# Altium footprint library QFP50P900X900X160-48N.PcbLib: 1 footprints
Each footprint in its own frame and in the unit in brackets; x right, y up, seen from the top. Pads: shape width x height; smd on the part's side, far side on the other; paste and mask are expansions set on the pad; w line width, h text height; cw(c..) or ccw(c..) is an arc to the next point about the centre after c.
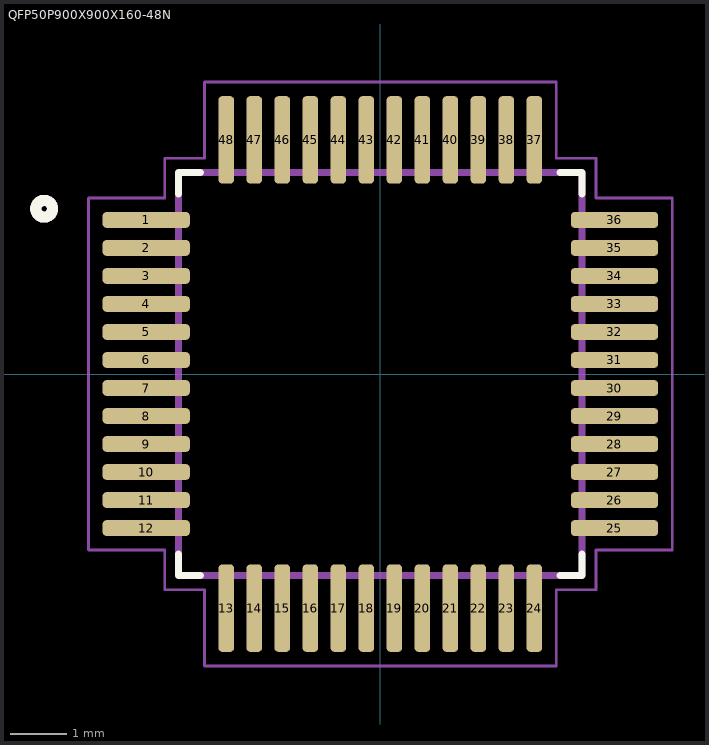
[diagram p0: the footprint, top view; thin cyan lines are the x and y axes]

## QFP50P900X900X160-48N [mm]
pads (48):
  rrect50% 1.56x0.28 smd: 1(-4.18,2.75) 2(-4.18,2.25) 3(-4.18,1.75) 4(-4.18,1.25) 5(-4.18,0.75) 6(-4.18,0.25) 7(-4.18,-0.25) 8(-4.18,-0.75) 9(-4.18,-1.25) 10(-4.18,-1.75) 11(-4.18,-2.25) 12(-4.18,-2.75) 25(4.18,-2.75) 26(4.18,-2.25) 27(4.18,-1.75) 28(4.18,-1.25) 29(4.18,-0.75) 30(4.18,-0.25) 31(4.18,0.25) 32(4.18,0.75) 33(4.18,1.25) 34(4.18,1.75) 35(4.18,2.25) 36(4.18,2.75)
  rrect50% 0.28x1.56 smd: 13(-2.75,-4.18) 14(-2.25,-4.18) 15(-1.75,-4.18) 16(-1.25,-4.18) 17(-0.75,-4.18) 18(-0.25,-4.18) 19(0.25,-4.18) 20(0.75,-4.18) 21(1.25,-4.18) 22(1.75,-4.18) 23(2.25,-4.18) 24(2.75,-4.18) 37(2.75,4.18) 38(2.25,4.18) 39(1.75,4.18) 40(1.25,4.18) 41(0.75,4.18) 42(0.25,4.18) 43(-0.25,4.18) 44(-0.75,4.18) 45(-1.25,4.18) 46(-1.75,4.18) 47(-2.25,4.18) 48(-2.75,4.18)
Top Overlay:
  circle w0.2: c-6,2.95 r0.15
  lines w0.127: -3.6,-3.21 -3.6,-3.6 -3.21,-3.6 ; -3.6,3.21 -3.6,3.6 -3.21,3.6 ; 3.21,-3.6 3.6,-3.6 3.6,-3.21 ; 3.21,3.6 3.6,3.6 3.6,3.21
Mechanical 13:
  circle w0.2: c-6,2.95 r0.15
  lines w0.127: -3.6,-3.6 3.6,-3.6 3.6,3.6 -3.6,3.6 -3.6,-3.6
Mechanical 15:
  lines w0.05: -5.21,-3.14 -3.85,-3.14 -3.85,-3.85 -3.14,-3.85 -3.14,-5.21 3.14,-5.21 3.14,-3.85 3.85,-3.85 3.85,-3.14 5.21,-3.14 5.21,3.14 3.85,3.14 3.85,3.85 3.14,3.85 3.14,5.21 -3.14,5.21 -3.14,3.85 -3.85,3.85 -3.85,3.14 -5.21,3.14 -5.21,-3.14
3D body "step_temp.STEP": height 1.6, standoff 0, extent -4.5,-4.5 4.5,4.5